# EAGLE library part DRV8837C_H-BRIDGE_1A_WSON-8-PAD (library MrSwirlyEyes)
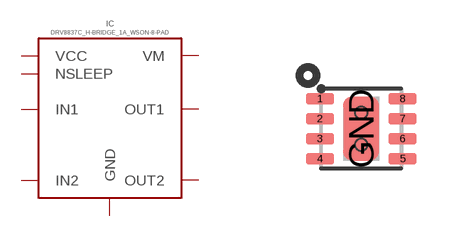
[diagram p3: symbol with the pads of WSON-8-PPAD; footprint WSON-8-PPAD]

Designator prefix IC

## DRV8837C_H-BRIDGE_1A_WSON-8-PADDRV8837C_1A (CREATOR: MrSwirlyEyes; DATASHEET: http://www.ti.com/lit/ds/symlink/drv8837c.pdf; DIST: Digikey; DISTLINK: https://www.digikey.com/products/en?keywords=296-44747-1-ND; DISTPN: 296-44747-1-ND; MFR: Texas Instruments; MPN: DRV8837CDSGT; TESTED: NO; VALUE: DRV8837C)  [WSON-8-PPAD]
1  VM  pas
2  OUT1  pas
3  OUT2  pas
4  GND  pas
5  IN2  pas
6  IN1  pas
7  NSLEEP  pas
8  VCC  pas
GND  GND  pas

## Footprint WSON-8-PPAD (pad centres in mm)
smd 0.7 x 0.28: 1 -1.035,0.75; 2 -1.035,0.25; 3 -1.035,-0.25; 4 -1.035,-0.75; 5 1.035,-0.75; 6 1.035,-0.25; 7 1.035,0.25; 8 1.035,0.75
smd 0.9 x 1.6: GND 0,0
hole 0.3 at 0,0.4
hole 0.3 at 0,-0.4